# Altium integrated library CAP 0805.IntLib: 12 symbols
Pins are listed as number, name and electrical type; pins without a type are passive.

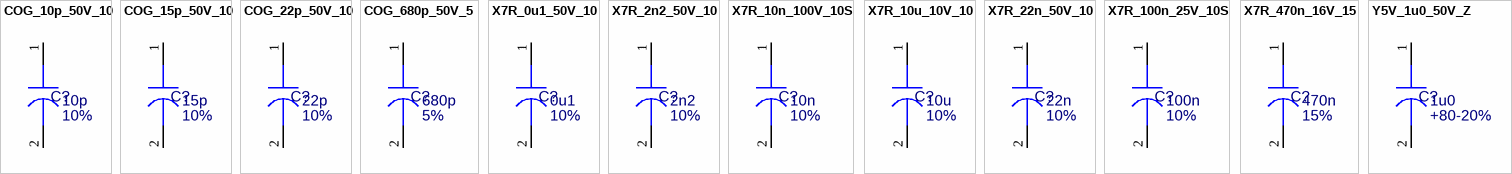
[diagram p0: symbols COG_10p_50V_10 to Y5V_1u0_50V_Z]

## COG_10p_50V_10
designator C?, comment value 10p  Tolerance: 10%  (hidden comment: 60200-2016)
Capacitor, 10pF 50V; ECAD_Revision: 1; Librarian: US; PartNumber: 60200-2016; HelpURL: *; Item: *; Voltage: 50V
simulation model CAP (Capacitor)
footprint C0805 (Rev.1)
pins: 1, 2

## COG_15p_50V_10
designator C?, comment value 15p  Tolerance: 10%  (hidden comment: 60200-2032)
Capacitor, 15pF 50V; ECAD_Revision: 1; Librarian: US; PartNumber: 60200-2032; HelpURL: *; Item: *; Voltage: 50V
simulation model CAP (Capacitor)
footprint C0805 (Rev.1)
pins: 1, 2

## COG_22p_50V_10
designator C?, comment value 22p  Tolerance: 10%  (hidden comment: 60200-2057)
Capacitor, 22pF 50V; ECAD_Revision: 1; Librarian: US; PartNumber: 60200-2057; HelpURL: *; Item: *; Voltage: 50V
simulation model CAP (Capacitor)
footprint C0805 (Rev.1)
pins: 1, 2

## COG_680p_50V_5
designator C?, comment value 680p  Tolerance: 5%  (hidden comment: CXD680P0J050BC)
Capacitor, 680pF 50V; ECAD_Revision: 2; Librarian: UK; PartNumber: CXD680P0J050BC; HelpURL: *; Item: *; Voltage: 50V
simulation model CAP (Capacitor)
footprint C0805 (Rev.1)
pins: 1, 2

## X7R_0u1_50V_10
designator C?, comment value 0u1  Tolerance: 10%  (hidden comment: 60201-2379)
Capacitor, 0.1uF 50V; ECAD_Revision: 1; Librarian: US; PartNumber: 60201-2379; HelpURL: *; Item: *; Voltage: 50V
simulation model CAP (Capacitor)
footprint C0805 (Rev.1)
pins: 1, 2

## X7R_2n2_50V_10
designator C?, comment value 2n2  Tolerance: 10%  (hidden comment: 60201-2171)
Capacitor, 2.2nF 50V; ECAD_Revision: 1; Librarian: US; PartNumber: 60201-2171; HelpURL: *; Item: *; Voltage: 50V
simulation model CAP (Capacitor)
footprint C0805 (Rev.1)
pins: 1, 2

## X7R_10n_100V_10S
designator C?, comment value 10n  Tolerance: 10%  (hidden comment: CXD10N00K100AR)
Capacitor, 10nF 100V; ECAD_Revision: 2; Librarian: UK; PartNumber: CXD10N00K100AR; HelpURL: *; Item: *; Voltage: 100V
simulation model CAP (Capacitor)
footprint C0805 (Rev.1)
pins: 1, 2

## X7R_10u_10V_10
designator C?, comment value 10u  Tolerance: 10%  (hidden comment: AWT25-500063)
Capacitor, 10uF 10V; ECAD_Revision: 1; Librarian: US; PartNumber: AWT25-500063; HelpURL: K:\ACCELEDA\PDF Spec Files\CAPS\ECJ Series.pdf; Item: *; Voltage: 10V
simulation model CAP (Capacitor)
footprint C0805 (Rev.1)
pins: 1, 2

## X7R_22n_50V_10
designator C?, comment value 22n  Tolerance: 10%  (hidden comment: 60201-2296)
Capacitor, 22nF 50V; ECAD_Revision: 1; Librarian: US; PartNumber: 60201-2296; HelpURL: *; Item: *; Voltage: 50V
simulation model CAP (Capacitor)
footprint C0805 (Rev.1)
pins: 1, 2

## X7R_100n_25V_10S
designator C?, comment value 100n  Tolerance: 10%  (hidden comment: CXD100N0K025AR)
Capacitor, 100nF 25V; ECAD_Revision: 2; Librarian: UK; PartNumber: CXD100N0K025AR; HelpURL: *; Item: *; Voltage: 25V
simulation model CAP (Capacitor)
footprint C0805 (Rev.1)
pins: 1, 2

## X7R_470n_16V_15
designator C?, comment value 470n  Tolerance: 15%  (hidden comment: CXD0U470K016AR)
Capacitor, 470nF 16V 15%; ECAD_Revision: 1; Librarian: UK; PartNumber: CXD0U470K016AR; HelpURL: *; Item: *; Voltage: 16V
simulation model CAP (Capacitor)
footprint C0805 (Rev.1)
pins: 1, 2

## Y5V_1u0_50V_Z
designator C?, comment value 1u0  Tolerance: +80-20%  (hidden comment: AWT25-500067)
Capacitor, 1uF 50V; ECAD_Revision: 1; Librarian: US; PartNumber: AWT25-500067; HelpURL: K:\ACCELEDA\PDF Spec Files\CAPS\ECJ Series.pdf; Item: *; Voltage: 50V
simulation model CAP (Capacitor)
footprint C0805 (Rev.1)
pins: 1, 2